# Altium integrated library WE-FC (rev22a).IntLib: 24 symbols
Pins are listed as number, name and electrical type; pins without a type are passive.

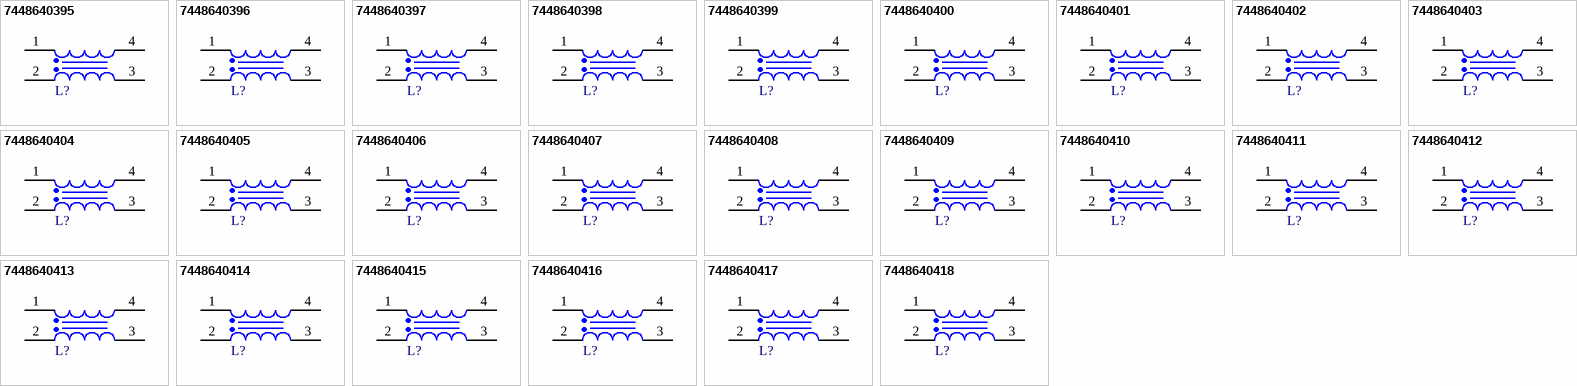
[diagram p0: symbols 7448640395 to 7448640418]

## 7448640395
designator L?, comment 1.1mH  (value not drawn)
WE-FC THT Common Mode Power Line Choke, ET20H, 1.1mH, 2.6A, 0.07Ω; Manufacturer Part Number: 7448640395; Manufacturer: Wurth Elektronik; Insulation Test Voltage (AC): 2000V; Material: MnZn; Rated Voltage (AC): 250V; ComponentLink1Description: Website Link; ComponentLink1URL: https://www.we-online.com/redexpert/article/7448640395?ad; ComponentLink2Description: Datasheet Link; ComponentLink2URL: https://www.we-online.com/redexpert/spec/7448640395?ad; Category: Common Mode Chokes; Match Code: WE-FC; Mount: Through Hole; Operating Temperature Max: 125°C; Operating Temperature Min: -40°C; Packaging: Tray; Case/Size Code: ET20H; Length: 21.3mm; Width: 21.3mm; Height: 17.8mm; DC Resistance: 0.07Ω; Inductance: 1.1mH; Rated Current: 2.6A
footprint WE-FC_ET20H
pins: 1, 2, 3, 4

## 7448640396
designator L?, comment 2.7mH  (value not drawn)
WE-FC THT Common Mode Power Line Choke, ET20H, 2.7mH, 1.65A, 0.15Ω; Manufacturer Part Number: 7448640396; Manufacturer: Wurth Elektronik; Insulation Test Voltage (AC): 2000V; Material: MnZn; Rated Voltage (AC): 250V; ComponentLink1Description: Website Link; ComponentLink1URL: https://www.we-online.com/redexpert/article/7448640396?ad; ComponentLink2Description: Datasheet Link; ComponentLink2URL: https://www.we-online.com/redexpert/spec/7448640396?ad; Category: Common Mode Chokes; Match Code: WE-FC; Mount: Through Hole; Operating Temperature Max: 125°C; Operating Temperature Min: -40°C; Packaging: Tray; Case/Size Code: ET20H; Length: 21.3mm; Width: 21.3mm; Height: 17.8mm; DC Resistance: 0.15Ω; Inductance: 2.7mH; Rated Current: 1.65A
footprint WE-FC_ET20H
pins: 1, 2, 3, 4

## 7448640397
designator L?, comment 3.9mH  (value not drawn)
WE-FC THT Common Mode Power Line Choke, ET20H, 3.9mH, 1.3A, 0.23Ω; Manufacturer Part Number: 7448640397; Manufacturer: Wurth Elektronik; Insulation Test Voltage (AC): 2000V; Material: MnZn; Rated Voltage (AC): 250V; ComponentLink1Description: Website Link; ComponentLink1URL: https://www.we-online.com/redexpert/article/7448640397?ad; ComponentLink2Description: Datasheet Link; ComponentLink2URL: https://www.we-online.com/redexpert/spec/7448640397?ad; Category: Common Mode Chokes; Match Code: WE-FC; Mount: Through Hole; Operating Temperature Max: 125°C; Operating Temperature Min: -40°C; Packaging: Tray; Case/Size Code: ET20H; Length: 21.3mm; Width: 21.3mm; Height: 17.8mm; DC Resistance: 0.23Ω; Inductance: 3.9mH; Rated Current: 1.3A
footprint WE-FC_ET20H
pins: 1, 2, 3, 4

## 7448640398
designator L?, comment 4.9mH  (value not drawn)
WE-FC THT Common Mode Power Line Choke, ET20H, 4.9mH, 1.2A, 0.25Ω; Manufacturer Part Number: 7448640398; Manufacturer: Wurth Elektronik; Insulation Test Voltage (AC): 2000V; Material: MnZn; Rated Voltage (AC): 250V; ComponentLink1Description: Website Link; ComponentLink1URL: https://www.we-online.com/redexpert/article/7448640398?ad; ComponentLink2Description: Datasheet Link; ComponentLink2URL: https://www.we-online.com/redexpert/spec/7448640398?ad; Category: Common Mode Chokes; Match Code: WE-FC; Mount: Through Hole; Operating Temperature Max: 125°C; Operating Temperature Min: -40°C; Packaging: Tray; Case/Size Code: ET20H; Length: 21.3mm; Width: 21.3mm; Height: 17.8mm; DC Resistance: 0.25Ω; Inductance: 4.9mH; Rated Current: 1.2A
footprint WE-FC_ET20H
pins: 1, 2, 3, 4

## 7448640399
designator L?, comment 5.9mH  (value not drawn)
WE-FC THT Common Mode Power Line Choke, ET20H, 5.9mH, 1.15A, 0.28Ω; Manufacturer Part Number: 7448640399; Manufacturer: Wurth Elektronik; Insulation Test Voltage (AC): 2000V; Material: MnZn; Rated Voltage (AC): 250V; ComponentLink1Description: Website Link; ComponentLink1URL: https://www.we-online.com/redexpert/article/7448640399?ad; ComponentLink2Description: Datasheet Link; ComponentLink2URL: https://www.we-online.com/redexpert/spec/7448640399?ad; Category: Common Mode Chokes; Match Code: WE-FC; Mount: Through Hole; Operating Temperature Max: 125°C; Operating Temperature Min: -40°C; Packaging: Tray; Case/Size Code: ET20H; Length: 21.3mm; Width: 21.3mm; Height: 17.8mm; DC Resistance: 0.28Ω; Inductance: 5.9mH; Rated Current: 1.15A
footprint WE-FC_ET20H
pins: 1, 2, 3, 4

## 7448640400
designator L?, comment 7.1mH  (value not drawn)
WE-FC THT Common Mode Power Line Choke, ET20H, 7.1mH, 0.95A, 0.4Ω; Manufacturer Part Number: 7448640400; Manufacturer: Wurth Elektronik; Insulation Test Voltage (AC): 2000V; Material: MnZn; Rated Voltage (AC): 250V; ComponentLink1Description: Website Link; ComponentLink1URL: https://www.we-online.com/redexpert/article/7448640400?ad; ComponentLink2Description: Datasheet Link; ComponentLink2URL: https://www.we-online.com/redexpert/spec/7448640400?ad; Category: Common Mode Chokes; Match Code: WE-FC; Mount: Through Hole; Operating Temperature Max: 125°C; Operating Temperature Min: -40°C; Packaging: Tray; Case/Size Code: ET20H; Length: 21.3mm; Width: 21.3mm; Height: 17.8mm; DC Resistance: 0.4Ω; Inductance: 7.1mH; Rated Current: 0.95A
footprint WE-FC_ET20H
pins: 1, 2, 3, 4

## 7448640401
designator L?, comment 9.4mH  (value not drawn)
WE-FC THT Common Mode Power Line Choke, ET20H, 9.4mH, 0.9A, 0.48Ω; Manufacturer Part Number: 7448640401; Manufacturer: Wurth Elektronik; Insulation Test Voltage (AC): 2000V; Material: MnZn; Rated Voltage (AC): 250V; ComponentLink1Description: Website Link; ComponentLink1URL: https://www.we-online.com/redexpert/article/7448640401?ad; ComponentLink2Description: Datasheet Link; ComponentLink2URL: https://www.we-online.com/redexpert/spec/7448640401?ad; Category: Common Mode Chokes; Match Code: WE-FC; Mount: Through Hole; Operating Temperature Max: 125°C; Operating Temperature Min: -40°C; Packaging: Tray; Case/Size Code: ET20H; Length: 21.3mm; Width: 21.3mm; Height: 17.8mm; DC Resistance: 0.48Ω; Inductance: 9.4mH; Rated Current: 0.9A
footprint WE-FC_ET20H
pins: 1, 2, 3, 4

## 7448640402
designator L?, comment 15mH  (value not drawn)
WE-FC THT Common Mode Power Line Choke, ET20H, 15mH, 0.7A, 0.72Ω; Manufacturer Part Number: 7448640402; Manufacturer: Wurth Elektronik; Insulation Test Voltage (AC): 2000V; Material: MnZn; Rated Voltage (AC): 250V; ComponentLink1Description: Website Link; ComponentLink1URL: https://www.we-online.com/redexpert/article/7448640402?ad; ComponentLink2Description: Datasheet Link; ComponentLink2URL: https://www.we-online.com/redexpert/spec/7448640402?ad; Category: Common Mode Chokes; Match Code: WE-FC; Mount: Through Hole; Operating Temperature Max: 125°C; Operating Temperature Min: -40°C; Packaging: Tray; Case/Size Code: ET20H; Length: 21.3mm; Width: 21.3mm; Height: 17.8mm; DC Resistance: 0.72Ω; Inductance: 15mH; Rated Current: 0.7A
footprint WE-FC_ET20H
pins: 1, 2, 3, 4

## 7448640403
designator L?, comment 24mH  (value not drawn)
WE-FC THT Common Mode Power Line Choke, ET20H, 24mH, 0.55A, 1.17Ω; Manufacturer Part Number: 7448640403; Manufacturer: Wurth Elektronik; Insulation Test Voltage (AC): 2000V; Material: MnZn; Rated Voltage (AC): 250V; ComponentLink1Description: Website Link; ComponentLink1URL: https://www.we-online.com/redexpert/article/7448640403?ad; ComponentLink2Description: Datasheet Link; ComponentLink2URL: https://www.we-online.com/redexpert/spec/7448640403?ad; Category: Common Mode Chokes; Match Code: WE-FC; Mount: Through Hole; Operating Temperature Max: 125°C; Operating Temperature Min: -40°C; Packaging: Tray; Case/Size Code: ET20H; Length: 21.3mm; Width: 21.3mm; Height: 17.8mm; DC Resistance: 1.17Ω; Inductance: 24mH; Rated Current: 0.55A
footprint WE-FC_ET20H
pins: 1, 2, 3, 4

## 7448640404
designator L?, comment 30mH  (value not drawn)
WE-FC THT Common Mode Power Line Choke, ET20H, 30mH, 0.45A, 1.61Ω; Manufacturer Part Number: 7448640404; Manufacturer: Wurth Elektronik; Insulation Test Voltage (AC): 2000V; Material: MnZn; Rated Voltage (AC): 250V; ComponentLink1Description: Website Link; ComponentLink1URL: https://www.we-online.com/redexpert/article/7448640404?ad; ComponentLink2Description: Datasheet Link; ComponentLink2URL: https://www.we-online.com/redexpert/spec/7448640404?ad; Category: Common Mode Chokes; Match Code: WE-FC; Mount: Through Hole; Operating Temperature Max: 125°C; Operating Temperature Min: -40°C; Packaging: Tray; Case/Size Code: ET20H; Length: 21.3mm; Width: 21.3mm; Height: 17.8mm; DC Resistance: 1.61Ω; Inductance: 30mH; Rated Current: 0.45A
footprint WE-FC_ET20H
pins: 1, 2, 3, 4

## 7448640405
designator L?, comment 42mH  (value not drawn)
WE-FC THT Common Mode Power Line Choke, ET20H, 42mH, 0.45A, 2Ω; Manufacturer Part Number: 7448640405; Manufacturer: Wurth Elektronik; Insulation Test Voltage (AC): 2000V; Material: MnZn; Rated Voltage (AC): 250V; ComponentLink1Description: Website Link; ComponentLink1URL: https://www.we-online.com/redexpert/article/7448640405?ad; ComponentLink2Description: Datasheet Link; ComponentLink2URL: https://www.we-online.com/redexpert/spec/7448640405?ad; Category: Common Mode Chokes; Match Code: WE-FC; Mount: Through Hole; Operating Temperature Max: 125°C; Operating Temperature Min: -40°C; Packaging: Tray; Case/Size Code: ET20H; Length: 21.3mm; Width: 21.3mm; Height: 17.8mm; DC Resistance: 2Ω; Inductance: 42mH; Rated Current: 0.45A
footprint WE-FC_ET20H
pins: 1, 2, 3, 4

## 7448640406
designator L?, comment 1.1mH  (value not drawn)
WE-FC THT Common Mode Power Line Choke, UT20V, 1.1mH, 2.65A, 0.07Ω; Manufacturer Part Number: 7448640406; Manufacturer: Wurth Elektronik; Insulation Test Voltage (AC): 2000V; Material: MnZn; Rated Voltage (AC): 250V; ComponentLink1Description: Website Link; ComponentLink1URL: https://www.we-online.com/redexpert/article/7448640406?ad; ComponentLink2Description: Datasheet Link; ComponentLink2URL: https://www.we-online.com/redexpert/spec/7448640406?ad; Category: Common Mode Chokes; Match Code: WE-FC; Mount: Through Hole; Operating Temperature Max: 125°C; Operating Temperature Min: -40°C; Packaging: Tray; Case/Size Code: UT20V; Length: 21.3mm; Width: 16.6mm; Height: 22.5mm; DC Resistance: 0.07Ω; Inductance: 1.1mH; Rated Current: 2.65A
footprint WE-FC_UT20V
pins: 1, 2, 3, 4

## 7448640407
designator L?, comment 1.5mH  (value not drawn)
WE-FC THT Common Mode Power Line Choke, UT20V, 1.5mH, 2.2A, 0.1Ω; Manufacturer Part Number: 7448640407; Manufacturer: Wurth Elektronik; Insulation Test Voltage (AC): 2000V; Material: MnZn; Rated Voltage (AC): 250V; ComponentLink1Description: Website Link; ComponentLink1URL: https://www.we-online.com/redexpert/article/7448640407?ad; ComponentLink2Description: Datasheet Link; ComponentLink2URL: https://www.we-online.com/redexpert/spec/7448640407?ad; Category: Common Mode Chokes; Match Code: WE-FC; Mount: Through Hole; Operating Temperature Max: 125°C; Operating Temperature Min: -40°C; Packaging: Tray; Case/Size Code: UT20V; Length: 21.3mm; Width: 16.6mm; Height: 22.5mm; DC Resistance: 0.1Ω; Inductance: 1.5mH; Rated Current: 2.2A
footprint WE-FC_UT20V
pins: 1, 2, 3, 4

## 7448640408
designator L?, comment 2.3mH  (value not drawn)
WE-FC THT Common Mode Power Line Choke, UT20V, 2.3mH, 2A, 0.12Ω; Manufacturer Part Number: 7448640408; Manufacturer: Wurth Elektronik; Insulation Test Voltage (AC): 2000V; Material: MnZn; Rated Voltage (AC): 250V; ComponentLink1Description: Website Link; ComponentLink1URL: https://www.we-online.com/redexpert/article/7448640408?ad; ComponentLink2Description: Datasheet Link; ComponentLink2URL: https://www.we-online.com/redexpert/spec/7448640408?ad; Category: Common Mode Chokes; Match Code: WE-FC; Mount: Through Hole; Operating Temperature Max: 125°C; Operating Temperature Min: -40°C; Packaging: Tray; Case/Size Code: UT20V; Length: 21.3mm; Width: 16.6mm; Height: 22.5mm; DC Resistance: 0.12Ω; Inductance: 2.3mH; Rated Current: 2A
footprint WE-FC_UT20V
pins: 1, 2, 3, 4

## 7448640409
designator L?, comment 2.8mH  (value not drawn)
WE-FC THT Common Mode Power Line Choke, UT20V, 2.8mH, 1.6A, 0.17Ω; Manufacturer Part Number: 7448640409; Manufacturer: Wurth Elektronik; Insulation Test Voltage (AC): 2000V; Material: MnZn; Rated Voltage (AC): 250V; ComponentLink1Description: Website Link; ComponentLink1URL: https://www.we-online.com/redexpert/article/7448640409?ad; ComponentLink2Description: Datasheet Link; ComponentLink2URL: https://www.we-online.com/redexpert/spec/7448640409?ad; Category: Common Mode Chokes; Match Code: WE-FC; Mount: Through Hole; Operating Temperature Max: 125°C; Operating Temperature Min: -40°C; Packaging: Tray; Case/Size Code: UT20V; Length: 21.3mm; Width: 16.6mm; Height: 22.5mm; DC Resistance: 0.17Ω; Inductance: 2.8mH; Rated Current: 1.6A
footprint WE-FC_UT20V
pins: 1, 2, 3, 4

## 7448640410
designator L?, comment 3.6mH  (value not drawn)
WE-FC THT Common Mode Power Line Choke, UT20V, 3.6mH, 1.55A, 0.187Ω; Manufacturer Part Number: 7448640410; Manufacturer: Wurth Elektronik; Insulation Test Voltage (AC): 2000V; Material: MnZn; Rated Voltage (AC): 250V; ComponentLink1Description: Website Link; ComponentLink1URL: https://www.we-online.com/redexpert/article/7448640410?ad; ComponentLink2Description: Datasheet Link; ComponentLink2URL: https://www.we-online.com/redexpert/spec/7448640410?ad; Category: Common Mode Chokes; Match Code: WE-FC; Mount: Through Hole; Operating Temperature Max: 125°C; Operating Temperature Min: -40°C; Packaging: Tray; Case/Size Code: UT20V; Length: 21.3mm; Width: 16.6mm; Height: 22.5mm; DC Resistance: 0.187Ω; Inductance: 3.6mH; Rated Current: 1.55A
footprint WE-FC_UT20V
pins: 1, 2, 3, 4

## 7448640411
designator L?, comment 4.3mH  (value not drawn)
WE-FC THT Common Mode Power Line Choke, UT20V, 4.3mH, 1.5A, 0.21Ω; Manufacturer Part Number: 7448640411; Manufacturer: Wurth Elektronik; Insulation Test Voltage (AC): 2000V; Material: MnZn; Rated Voltage (AC): 250V; ComponentLink1Description: Website Link; ComponentLink1URL: https://www.we-online.com/redexpert/article/7448640411?ad; ComponentLink2Description: Datasheet Link; ComponentLink2URL: https://www.we-online.com/redexpert/spec/7448640411?ad; Category: Common Mode Chokes; Match Code: WE-FC; Mount: Through Hole; Operating Temperature Max: 125°C; Operating Temperature Min: -40°C; Packaging: Tray; Case/Size Code: UT20V; Length: 21.3mm; Width: 16.6mm; Height: 22.5mm; DC Resistance: 0.21Ω; Inductance: 4.3mH; Rated Current: 1.5A
footprint WE-FC_UT20V
pins: 1, 2, 3, 4

## 7448640412
designator L?, comment 5mH  (value not drawn)
WE-FC THT Common Mode Power Line Choke, UT20V, 5mH, 1.25A, 0.27Ω; Manufacturer Part Number: 7448640412; Manufacturer: Wurth Elektronik; Insulation Test Voltage (AC): 2000V; Material: MnZn; Rated Voltage (AC): 250V; ComponentLink1Description: Website Link; ComponentLink1URL: https://www.we-online.com/redexpert/article/7448640412?ad; ComponentLink2Description: Datasheet Link; ComponentLink2URL: https://www.we-online.com/redexpert/spec/7448640412?ad; Category: Common Mode Chokes; Match Code: WE-FC; Mount: Through Hole; Operating Temperature Max: 125°C; Operating Temperature Min: -40°C; Packaging: Tray; Case/Size Code: UT20V; Length: 21.3mm; Width: 16.6mm; Height: 22.5mm; DC Resistance: 0.27Ω; Inductance: 5mH; Rated Current: 1.25A
footprint WE-FC_UT20V
pins: 1, 2, 3, 4

## 7448640413
designator L?, comment 7.2mH  (value not drawn)
WE-FC THT Common Mode Power Line Choke, UT20V, 7.2mH, 1.05A, 0.415Ω; Manufacturer Part Number: 7448640413; Manufacturer: Wurth Elektronik; Insulation Test Voltage (AC): 2000V; Material: MnZn; Rated Voltage (AC): 250V; ComponentLink1Description: Website Link; ComponentLink1URL: https://www.we-online.com/redexpert/article/7448640413?ad; ComponentLink2Description: Datasheet Link; ComponentLink2URL: https://www.we-online.com/redexpert/spec/7448640413?ad; Category: Common Mode Chokes; Match Code: WE-FC; Mount: Through Hole; Operating Temperature Max: 125°C; Operating Temperature Min: -40°C; Packaging: Tray; Case/Size Code: UT20V; Length: 21.3mm; Width: 16.6mm; Height: 22.5mm; DC Resistance: 0.415Ω; Inductance: 7.2mH; Rated Current: 1.05A
footprint WE-FC_UT20V
pins: 1, 2, 3, 4

## 7448640414
designator L?, comment 8.8mH  (value not drawn)
WE-FC THT Common Mode Power Line Choke, UT20V, 8.8mH, 0.97A, 0.467Ω; Manufacturer Part Number: 7448640414; Manufacturer: Wurth Elektronik; Insulation Test Voltage (AC): 2000V; Material: MnZn; Rated Voltage (AC): 250V; ComponentLink1Description: Website Link; ComponentLink1URL: https://www.we-online.com/redexpert/article/7448640414?ad; ComponentLink2Description: Datasheet Link; ComponentLink2URL: https://www.we-online.com/redexpert/spec/7448640414?ad; Category: Common Mode Chokes; Match Code: WE-FC; Mount: Through Hole; Operating Temperature Max: 125°C; Operating Temperature Min: -40°C; Packaging: Tray; Case/Size Code: UT20V; Length: 21.3mm; Width: 16.6mm; Height: 22.5mm; DC Resistance: 0.467Ω; Inductance: 8.8mH; Rated Current: 0.97A
footprint WE-FC_UT20V
pins: 1, 2, 3, 4

## 7448640415
designator L?, comment 13mH  (value not drawn)
WE-FC THT Common Mode Power Line Choke, UT20V, 13mH, 0.8A, 0.708Ω; Manufacturer Part Number: 7448640415; Manufacturer: Wurth Elektronik; Insulation Test Voltage (AC): 2000V; Material: MnZn; Rated Voltage (AC): 250V; ComponentLink1Description: Website Link; ComponentLink1URL: https://www.we-online.com/redexpert/article/7448640415?ad; ComponentLink2Description: Datasheet Link; ComponentLink2URL: https://www.we-online.com/redexpert/spec/7448640415?ad; Category: Common Mode Chokes; Match Code: WE-FC; Mount: Through Hole; Operating Temperature Max: 125°C; Operating Temperature Min: -40°C; Packaging: Tray; Case/Size Code: UT20V; Length: 21.3mm; Width: 16.6mm; Height: 22.5mm; DC Resistance: 0.708Ω; Inductance: 13mH; Rated Current: 0.8A
footprint WE-FC_UT20V
pins: 1, 2, 3, 4

## 7448640416
designator L?, comment 24mH  (value not drawn)
WE-FC THT Common Mode Power Line Choke, UT20V, 24mH, 0.6A, 1.2Ω; Manufacturer Part Number: 7448640416; Manufacturer: Wurth Elektronik; Insulation Test Voltage (AC): 2000V; Material: MnZn; Rated Voltage (AC): 250V; ComponentLink1Description: Website Link; ComponentLink1URL: https://www.we-online.com/redexpert/article/7448640416?ad; ComponentLink2Description: Datasheet Link; ComponentLink2URL: https://www.we-online.com/redexpert/spec/7448640416?ad; Category: Common Mode Chokes; Match Code: WE-FC; Mount: Through Hole; Operating Temperature Max: 125°C; Operating Temperature Min: -40°C; Packaging: Tray; Case/Size Code: UT20V; Length: 21.3mm; Width: 16.6mm; Height: 22.5mm; DC Resistance: 1.2Ω; Inductance: 24mH; Rated Current: 0.6A
footprint WE-FC_UT20V
pins: 1, 2, 3, 4

## 7448640417
designator L?, comment 29mH  (value not drawn)
WE-FC THT Common Mode Power Line Choke, UT20V, 29mH, 0.52A, 1.63Ω; Manufacturer Part Number: 7448640417; Manufacturer: Wurth Elektronik; Insulation Test Voltage (AC): 2000V; Material: MnZn; Rated Voltage (AC): 250V; ComponentLink1Description: Website Link; ComponentLink1URL: https://www.we-online.com/redexpert/article/7448640417?ad; ComponentLink2Description: Datasheet Link; ComponentLink2URL: https://www.we-online.com/redexpert/spec/7448640417?ad; Category: Common Mode Chokes; Match Code: WE-FC; Mount: Through Hole; Operating Temperature Max: 125°C; Operating Temperature Min: -40°C; Packaging: Tray; Case/Size Code: UT20V; Length: 21.3mm; Width: 16.6mm; Height: 22.5mm; DC Resistance: 1.63Ω; Inductance: 29mH; Rated Current: 0.52A
footprint WE-FC_UT20V
pins: 1, 2, 3, 4

## 7448640418
designator L?, comment 43mH  (value not drawn)
WE-FC THT Common Mode Power Line Choke, UT20V, 43mH, 0.4A, 2.5Ω; Manufacturer Part Number: 7448640418; Manufacturer: Wurth Elektronik; Insulation Test Voltage (AC): 2000V; Material: MnZn; Rated Voltage (AC): 250V; ComponentLink1Description: Website Link; ComponentLink1URL: https://www.we-online.com/redexpert/article/7448640418?ad; ComponentLink2Description: Datasheet Link; ComponentLink2URL: https://www.we-online.com/redexpert/spec/7448640418?ad; Category: Common Mode Chokes; Match Code: WE-FC; Mount: Through Hole; Operating Temperature Max: 125°C; Operating Temperature Min: -40°C; Packaging: Tray; Case/Size Code: UT20V; Length: 21.3mm; Width: 16.6mm; Height: 22.5mm; DC Resistance: 2.5Ω; Inductance: 43mH; Rated Current: 0.4A
footprint WE-FC_UT20V
pins: 1, 2, 3, 4